# Altium schematic symbol library B0520.SchLib: 1 symbol
Pins are listed as number, name and electrical type; pins without a type are passive.

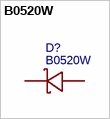
[diagram p0: symbol B0520W]

## B0520W
designator D?
BOM_Manufacturer: Shikues; Contributor: LCSC; BOM_Supplier: LCSC; BOM_Supplier Part: C475609; BOM_Manufacturer Part: B0520W; spicePre: D; spiceSymbolName: B0520W
footprint SOD-123_L2.8-W1.8-LS3.7-RD
pins: 1 C, 2 A